# EAGLE library part HEXABIT_?_POWER_ONLY (library hexabitz_connectors)
Hexabitz Hexagon Module Connector Hexagon side length = 17.32mm. Power-only connector. All array ports are removed.
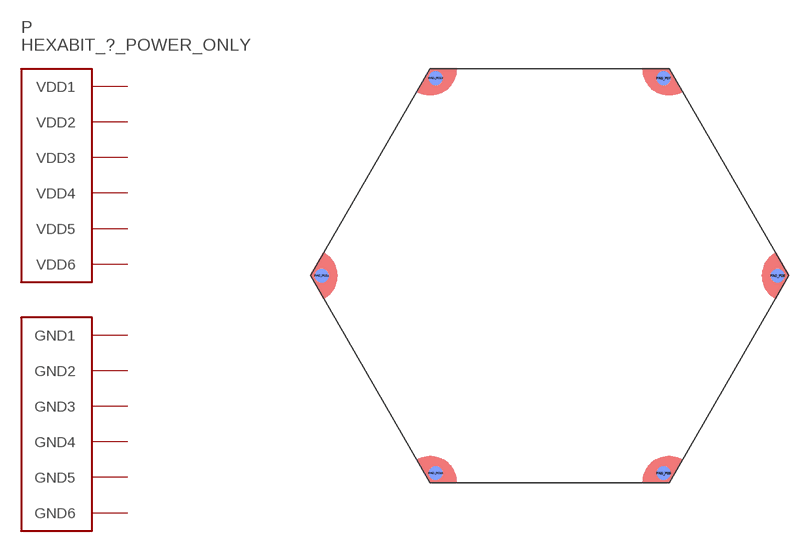
[diagram p2: symbol with the pads of HEXABIT_17.32_POWER_ONLY; footprint HEXABIT_17.32_POWER_ONLY]

Designator prefix P

## HEXABIT_17.32_POWER_ONLY  [HEXABIT_17.32_POWER_ONLY]
PAD_PD7  GND1  pwr
PAD_PD8  GND2  pwr
PAD_PD9  GND3  pwr
PAD_PD10  GND4  pwr
PAD_PD11  GND5  pwr
PAD_PD12  GND6  pwr
PAD_PU7  VDD1  pwr
PAD_PU8  VDD2  pwr
PAD_PU9  VDD3  pwr
PAD_PU10  VDD4  pwr
PAD_PU11  VDD5  pwr
PAD_PU12  VDD6  pwr

## Footprint HEXABIT_17.32_POWER_ONLY (pad centres in mm)
smd 1 x 1 bottom: PAD_PD7 8.26,14.31; PAD_PD8 16.52,0; PAD_PD9 8.26,-14.31; PAD_PD10 -8.26,-14.31; PAD_PD11 -16.52,0; PAD_PD12 -8.26,14.31
smd 1 x 1: PAD_PU7 8.26,14.31; PAD_PU8 16.52,0; PAD_PU9 8.26,-14.31; PAD_PU10 -8.26,-14.31; PAD_PU11 -16.52,0; PAD_PU12 -8.26,14.31